# Altium schematic symbol library Schlib1.SchLib: 1 symbol
Pins are listed as number, name and electrical type; pins without a type are passive.

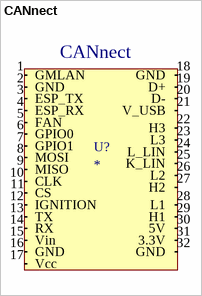
[diagram p0: symbol CANnect]

## CANnect
designator U?
footprint CANnect
pins: 1 GMLAN, 2 GND, 3 ESP_TX, 4 ESP_RX, 5 FAN, 6 GPIO0, 7 GPIO1, 8 MOSI, 9 MISO, 10 CLK, 11 CS, 12 IGNITION, 13 TX, 14 RX, 15 Vin, 16 GND, 17 Vcc, 18 GND, 19 D+, 20 D-, 21 V_USB, 22 H3, 23 L3, 24 L_LIN, 25 K_LIN, 26 L2, 27 H2, 28 L1, 29 H1, 30 5V, 31 3.3V, 32 GND